# EAGLE library part 1612901-1 (library 1612901-1)
Cylindrical Battery Contacts, Clips, Holders & Springs BATTERY BLOCK CONN. REC ASSY 3 Source: Datasheet <https://www.te.com/commerce/DocumentDelivery/DDEController?Action=showdoc&DocId=Customer Drawing1612901BpdfEnglishENG_CD_1612901_B.pdf1612901-1>
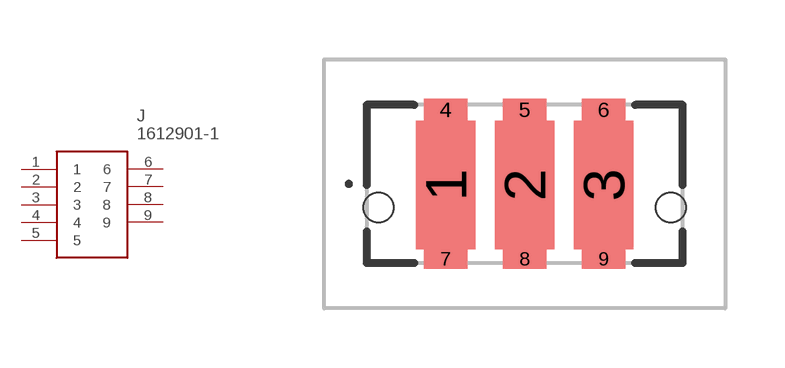
[diagram p0: symbol with the pads of 16129011; footprint 16129011]

Designator prefix J

## 1612901-1 (Arrow_Part_Number: 1612901-1; Arrow_Price-Stock: https://www.arrow.com/en/products/1612901-1/te-connectivity; Description: Cylindrical Battery Contacts, Clips, Holders & Springs BATTERY BLOCK CONN. REC ASSY 3; Height: 2.75mm; Manufacturer_Name: TE Connectivity; Manufacturer_Part_Number: 1612901-1; Mouser_Part_Number: 571-1612901-1; Mouser_Price-Stock: https://www.mouser.co.uk/ProductDetail/TE-Connectivity/1612901-1?qs=y6UIinpTn8jJ98k65QdKmA%3D%3D)  [16129011]
1  1
2  2
3  3
4  4
5  5
6  6
7  7
8  8
9  9

## Footprint 16129011 (pad centres in mm)
1612901-1-2
smd 1.5 x 3.25: 1 -2,-0.025; 2 0,-0.025; 3 2,-0.025
smd 1.1 x 0.55: 4 -2,1.875; 5 0,1.875; 6 2,1.875
smd 1.1 x 0.5: 7 -2,-1.9; 8 0,-1.9; 9 2,-1.9
hole 0.75 at -3.7,-0.6
hole 0.75 at 3.7,-0.6